# Altium schematic symbol library BitCoin.SchLib: 5 symbols
Pins are listed as number, name and electrical type; pins without a type are passive.

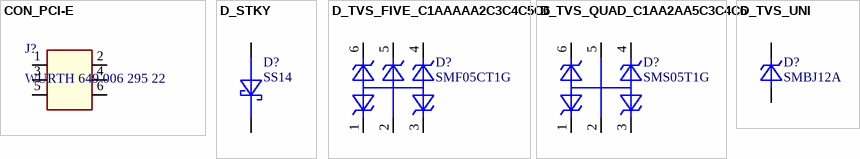
[diagram p0: symbols CON_PCI-E to D_TVS_UNI]

## CON_PCI-E
designator J?, comment WURTH 649 006 295 22
4.20mm Male Dual Row Angled Header WR-MPC4
footprint PTH_CON_PCI-E
pins: 1, 2, 3, 4, 5, 6

## D_STKY
designator D?, comment SS14
NOTE: <NOTE>
footprint SMD_DO214AC_SMA
pins: 1 C, 2 A

## D_TVS_FIVE_C1AAAAA2C3C4C5C6
designator D?, comment SMF05CT1G
5 IO lines TVS; NOTE: <NOTE>
footprint SMD_SOT363_SOT65P210X110-6N
pins: 1 C1, 2 AAAA, 3 C2, 4 C3, 5 C4, 6 C4

## D_TVS_QUAD_C1AA2AA5C3C4C6
designator D?, comment SMS05T1G
4 IO lines TVS; NOTE: <NOTE>
footprint SMD_SOT95P280X145-6N
pins: 1 C1, 2 AAAA, 3 C2, 4 C3, 5 C4, 6 C4

## D_TVS_UNI
designator D?, comment SMBJ12A
Еднопосочен трансил, 600W, UBRmin13.3V@1mA; NOTE: <NOTE>
footprint SMD_DO214AC_SMB
pins: 1 C, 2 A